# Altium footprint library Connectors_PLUS_headers.PcbLib: 22 footprints (part 1 of 2)
Each footprint in its own frame and in the unit in brackets; x right, y up, seen from the top. Pads: shape width x height; smd on the part's side, far side on the other; paste and mask are expansions set on the pad; w line width, h text height; cw(c..) or ccw(c..) is an arc to the next point about the centre after c.
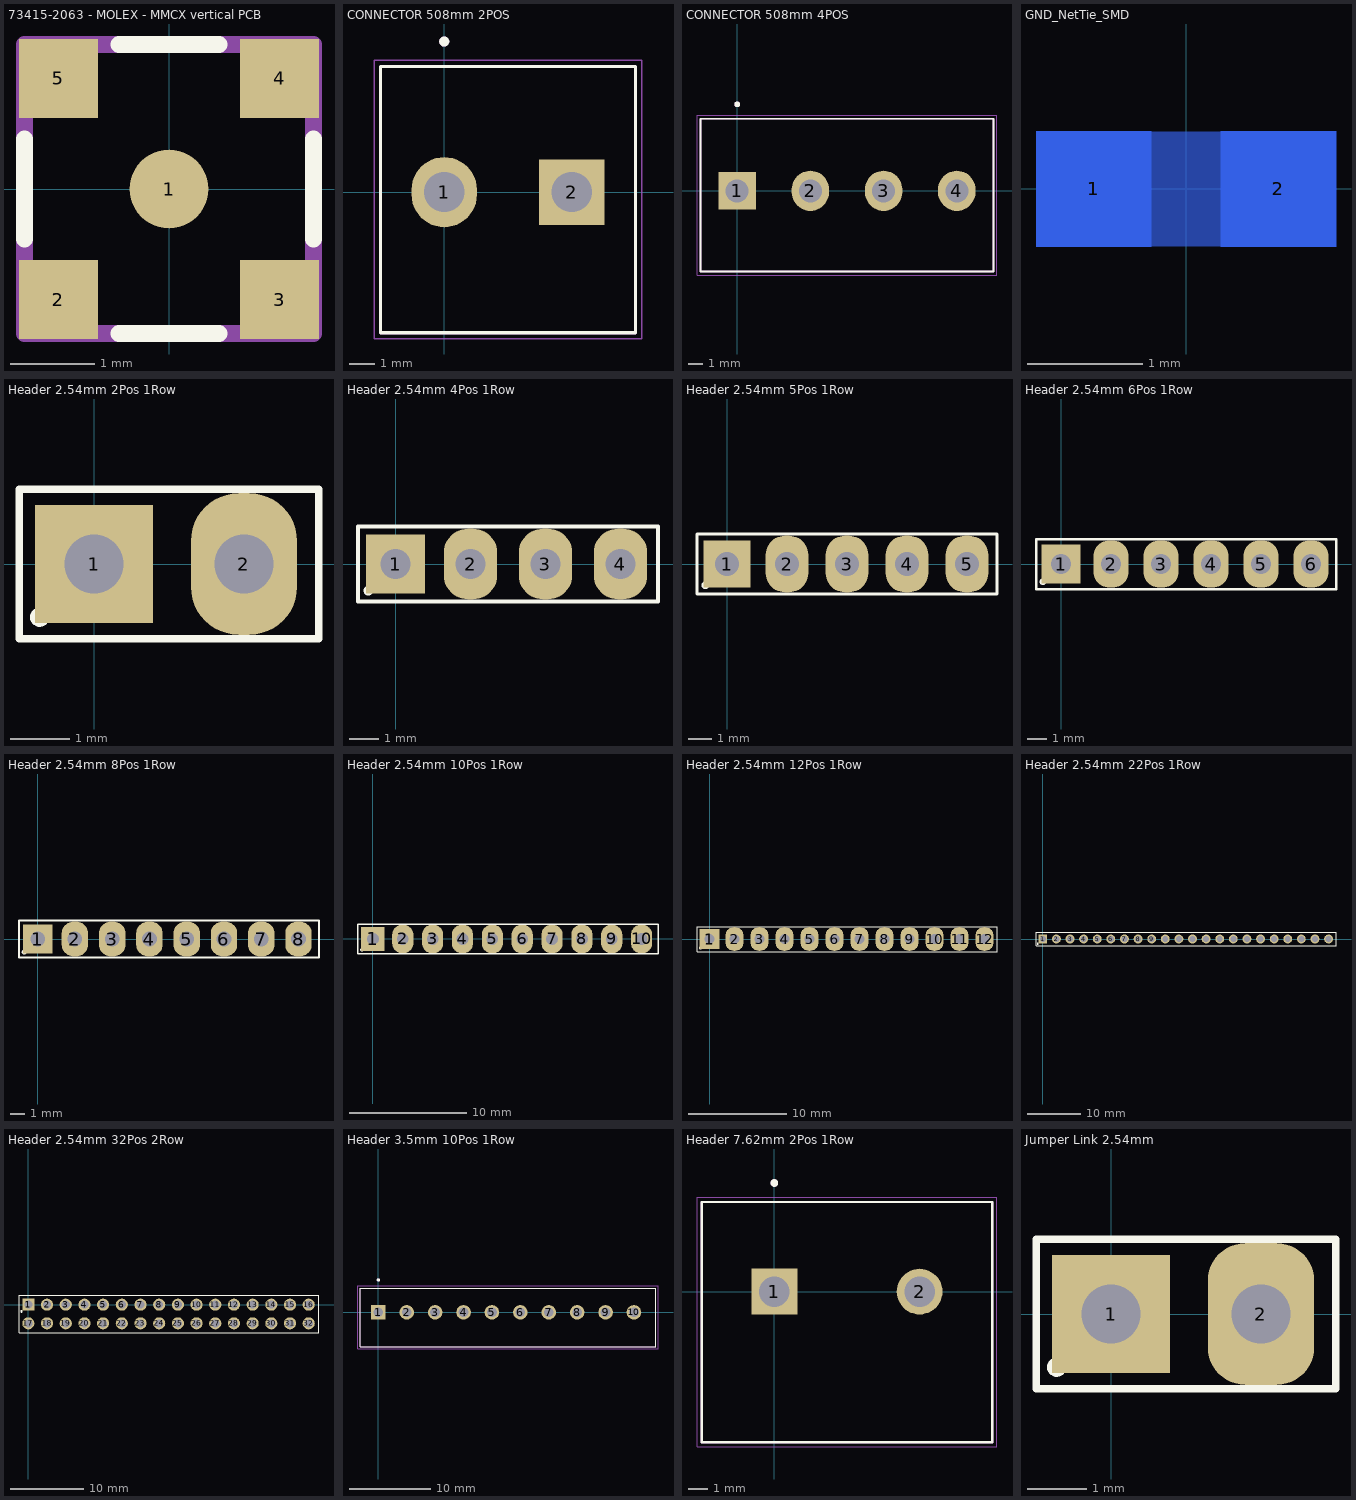
[diagram p0: the footprints below, top view; thin cyan lines are the x and y axes]

## 73415-2063 - MOLEX - MMCX vertical PCB [mm] "MMCX vertical PCB connector"
pads (5):
  round 0.94 smd: 1(0,0)
  rect 0.94x0.94 smd: 2(-1.32,-1.32) 3(1.32,-1.32) 4(1.32,1.32) 5(-1.32,1.32)
Top Overlay:
  lines w0.2: -1.725,-0.6 -1.725,0.6 ; -0.6,-1.725 0.6,-1.725 ; -0.6,1.725 0.6,1.725 ; 1.725,-0.6 1.725,0.6
Mechanical 13:
  lines w0.2: -1.725,-1.725 -1.725,1.725 1.725,1.725 1.725,-1.725 -1.725,-1.725
3D body "73415-2063.stp": height 5.01, standoff 0, extent -1.725,-1.725 1.725,1.725

## CONNECTOR 508mm 2POS [mm]
pads (2):
  oval 2.6x2.8 hole 1.6: 1(0,0)
  rect 2.6x2.6 hole 1.6: 2(5.08,0)
Top Overlay:
  circle w0.2: c0,6 r0.1
  lines w0.127: -2.54,-5.6 -2.54,5 7.62,5 7.62,-5.6 -2.54,-5.6
Mechanical 13:
  circle w0.2: c0,6 r0.1
  lines w0.127: -2.54,-5.6 -2.54,5 7.62,5 7.62,-5.6 -2.54,-5.6
Mechanical 15:
  lines w0.05: -2.79,-5.85 7.87,-5.85 7.87,5.25 -2.79,5.25 -2.79,-5.85
3D body "step_temp.STEP": height 19.5, standoff -4, extent -3.14,-5.6 8.22,4.9

## CONNECTOR 508mm 4POS [mm]
pads (4):
  rect 2.6x2.6 hole 1.6: 1(0,0)
  oval 2.6x2.8 hole 1.6: 2(5.08,0) 3(10.16,0) 4(15.24,0)
Top Overlay:
  circle w0.2: c0,6 r0.1
  lines w0.127: -2.54,-5.6 17.78,-5.6 17.78,5 -2.54,5 -2.54,-5.6
Mechanical 13:
  circle w0.2: c0,6 r0.1
  lines w0.127: -2.54,-5.6 17.78,-5.6 17.78,5 -2.54,5 -2.54,-5.6
Mechanical 15:
  lines w0.05: -2.79,-5.85 -2.79,5.25 18.03,5.25 18.03,-5.85 -2.79,-5.85
3D body "step_temp.STEP": height 19.5, standoff -4, extent -3.14,-5.6 18.38,4.9

## GND_NetTie_SMD [mm]
pads (2):
  rect 1x1 smd far side mask-10: 1(-0.8,0) 2(0.8,0)
Bottom Layer:
  rectangle: -0.5,-0.5 0.5,0.5

## Header 2.54mm 2Pos 1Row [mm]
pads (2):
  rect 2x2 hole 1: 1(0,0)
  rrect90% 1.8x2.4 hole 1: 2(2.54,0)
Top Overlay:
  circle w0.127: c-0.92,-0.9 r0.1
  lines w0.127: -1.27,-1.27 3.81,-1.27 3.81,1.27 -1.27,1.27 -1.27,-1.27

## Header 2.54mm 4Pos 1Row [mm]
pads (4):
  rect 2x2 hole 1: 1(0,0)
  rrect90% 1.8x2.4 hole 1: 2(2.54,0) 3(5.08,0) 4(7.62,0)
Top Overlay:
  circle w0.127: c-0.92,-0.9 r0.1
  lines w0.127: -1.27,-1.27 8.89,-1.27 8.89,1.27 -1.27,1.27 -1.27,-1.27

## Header 2.54mm 5Pos 1Row [mm]
pads (5):
  rect 2x2 hole 1: 1(0,0)
  rrect90% 1.8x2.4 hole 1: 2(2.54,0) 3(5.08,0) 4(7.62,0) 5(10.16,0)
Top Overlay:
  circle w0.127: c-0.92,-0.9 r0.1
  lines w0.127: -1.27,-1.27 -1.27,1.27 11.43,1.27 11.43,-1.27 -1.27,-1.27

## Header 2.54mm 6Pos 1Row [mm]
pads (6):
  rect 2x2 hole 1: 1(0,0)
  rrect90% 1.8x2.4 hole 1: 2(2.54,0) 3(5.08,0) 4(7.62,0) 5(10.16,0) 6(12.7,0)
Top Overlay:
  circle w0.127: c-0.92,-0.9 r0.1
  lines w0.127: -1.27,-1.27 13.97,-1.27 13.97,1.27 -1.27,1.27 -1.27,-1.27

## Header 2.54mm 8Pos 1Row [mm]
pads (8):
  rect 2x2 hole 1: 1(0,0)
  rrect90% 1.8x2.4 hole 1: 2(2.54,0) 3(5.08,0) 4(7.62,0) 5(10.16,0) 6(12.7,0) 7(15.24,0) 8(17.78,0)
Top Overlay:
  circle w0.127: c-0.92,-0.9 r0.1
  lines w0.127: -1.27,-1.27 -1.27,1.27 19.177,1.27 19.177,-1.27 -1.27,-1.27

## Header 2.54mm 10Pos 1Row [mm]
pads (10):
  rect 2x2 hole 1: 1(0,0)
  rrect90% 1.8x2.4 hole 1: 2(2.54,0) 3(5.08,0) 4(7.62,0) 5(10.16,0) 6(12.7,0) 7(15.24,0) 8(17.78,0) 9(20.32,0) 10(22.86,0)
Top Overlay:
  circle w0.127: c-0.92,-0.9 r0.1
  lines w0.127: -1.27,-1.27 24.257,-1.27 24.257,1.27 -1.27,1.27 -1.27,-1.27

## Header 2.54mm 12Pos 1Row [mm]
pads (12):
  rect 2x2 hole 1: 1(0,0)
  rrect90% 1.8x2.4 hole 1: 2(2.54,0) 3(5.08,0) 4(7.62,0) 5(10.16,0) 6(12.7,0) 7(15.24,0) 8(17.78,0) 9(20.32,0) 10(22.86,0) 11(25.4,0) 12(27.94,0)
Top Overlay:
  circle w0.127: c-0.92,-0.9 r0.1
  lines w0.127: -1.27,-1.27 29.21,-1.27 29.21,1.27 -1.27,1.27 -1.27,-1.27

## Header 2.54mm 22Pos 1Row [mm]
pads (22):
  rect 1.65x1.65 hole 1.1: 1(0,0)
  round 1.65 hole 1.1: 2(2.54,0) 3(5.08,0) 4(7.62,0) 5(10.16,0) 6(12.7,0) 7(15.24,0) 8(17.78,0) 9(20.32,0) 10(22.86,0) 11(25.4,0) 12(27.94,0) 13(30.48,0) 14(33.02,0) 15(35.56,0) 16(38.1,0) 17(40.64,0) 18(43.18,0) 19(45.72,0) 20(48.26,0) 21(50.8,0) 22(53.34,0)
Top Overlay:
  circle w0.127: c-0.92,-0.9 r0.1
  lines w0.127: -1.27,-1.27 -1.27,1.27 54.725,1.27 54.725,-1.27 -1.27,-1.27

## Header 2.54mm 32Pos 2Row [mm]
pads (32):
  rect 1.65x1.65 hole 1.1: 1(0,0)
  round 1.65 hole 1.1: 2(2.54,0) 3(5.08,0) 4(7.62,0) 5(10.16,0) 6(12.7,0) 7(15.24,0) 8(17.78,0) 9(20.32,0) 10(22.86,0) 11(25.4,0) 12(27.94,0) 13(30.48,0) 14(33.02,0) 15(35.56,0) 16(38.1,0) 17(0,-2.54) 18(2.54,-2.54) 19(5.08,-2.54) 20(7.62,-2.54) 21(10.16,-2.54) 22(12.7,-2.54) 23(15.24,-2.54) 24(17.78,-2.54) 25(20.32,-2.54) 26(22.86,-2.54) 27(25.4,-2.54) 28(27.94,-2.54) 29(30.48,-2.54) 30(33.02,-2.54) 31(35.56,-2.54) 32(38.1,-2.54)
Top Overlay:
  circle w0.127: c-0.92,-0.9 r0.1
  lines w0.127: -1.27,-3.81 39.497,-3.81 39.497,1.27 -1.27,1.27 -1.27,-3.81

## Header 3.5mm 10Pos 1Row [mm]
pads (10):
  rect 1.8x1.8 hole 1.2: 1(0,0)
  round 1.8 hole 1.2: 2(3.5,0) 3(7,0) 4(10.5,0) 5(14,0) 6(17.5,0) 7(21,0) 8(24.5,0) 9(28,0) 10(31.5,0)
Top Overlay:
  circle w0.2: c0,4 r0.1
  lines w0.127: -2.25,-4.25 34.206,-4.25 34.206,3 -2.25,3 -2.25,-4.25
Mechanical 13:
  circle w0.2: c0,4 r0.1
  lines w0.127: -2.25,-4.25 34.206,-4.25 34.206,3 -2.25,3 -2.25,-4.25
Mechanical 15:
  lines w0.05: -2.5,-4.5 34.46,-4.5 34.46,3.25 -2.5,3.25 -2.5,-4.5

## Header 7.62mm 2Pos 1Row [mm]
pads (2):
  rect 2.4x2.4 hole 1.6: 1(0,0)
  round 2.4 hole 1.6: 2(7.62,0)
Top Overlay:
  circle w0.2: c0,5.7 r0.1
  lines w0.127: -3.81,-7.9 11.43,-7.9 11.43,4.7 -3.81,4.7 -3.81,-7.9
Mechanical 13:
  circle w0.2: c0,5.7 r0.1
  lines w0.127: -3.81,-7.9 11.43,-7.9 11.43,4.7 -3.81,4.7 -3.81,-7.9
Mechanical 15:
  lines w0.05: -4.06,-8.15 -4.06,4.95 11.68,4.95 11.68,-8.15 -4.06,-8.15
3D body "CUI_DEVICES_TB005-762-02BE.step": height 21.7, standoff -4.75, extent -4.318,-7.874 11.522,4.726

## Jumper Link 2.54mm [mm]
pads (2):
  rect 2x2 hole 1: 1(0,0)
  rrect70% 1.8x2.4 hole 1: 2(2.54,0)
Top Overlay:
  circle w0.127: c-0.92,-0.9 r0.1
  lines w0.127: -1.27,-1.27 -1.27,1.27 3.81,1.27 3.81,-1.27 -1.27,-1.27
3D body "Jumper2-red.step": height 8.8, standoff -2.8, extent -1.3,-1.37 3.9,1.17